# EAGLE library part ESP32-C6-MINI-1 (library ESP32-C6-MINI-1)
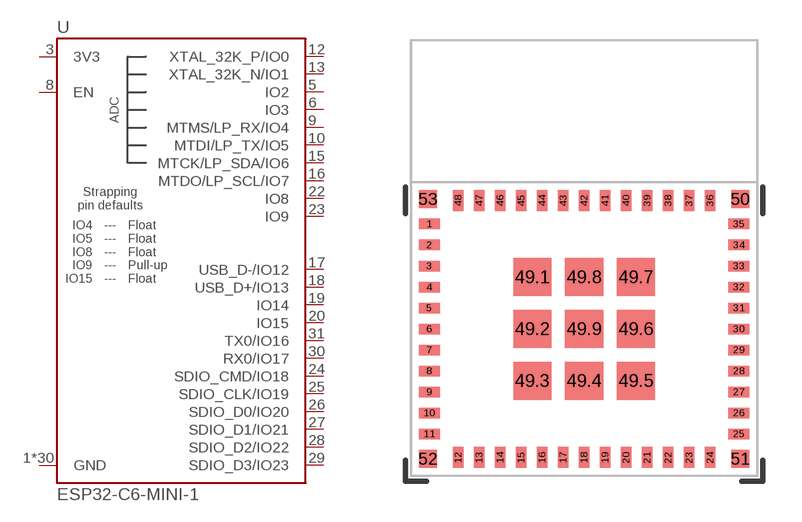
[diagram p0: symbol with the pads of ESP32-C6-MINI-1; footprint ESP32-C6-MINI-1]

Designator prefix U

## ESP32-C6-MINI-1 (PROD_ID: IC-19033)  [ESP32-C6-MINI-1]
1  GND
2  GND
3  3V3
5  IO2
6  IO3
8  EN
9  MTMS/LP_RX/IO4
10  MTDI/LP_TX/IO5
11  GND
12  XTAL_32K_P/IO0
13  XTAL_32K_N/IO1
14  GND
15  MTCK/LP_SDA/IO6
16  MTDO/LP_SCL/IO7
17  USB_D-/IO12
18  USB_D+/IO13
19  IO14
20  IO15
22  IO8
23  IO9
24  SDIO_CMD/IO18
25  SDIO_CLK/IO19
26  SDIO_D0/IO20
27  SDIO_D1/IO21
28  SDIO_D2/IO22
29  SDIO_D3/IO23
30  RX0/IO17
31  TX0/IO16
36  GND
37  GND
38  GND
39  GND
40  GND
41  GND
42  GND
43  GND
44  GND
45  GND
46  GND
47  GND
48  GND
49.1  GND
49.2  GND
49.3  GND
49.4  GND
49.5  GND
49.6  GND
49.7  GND
49.8  GND
49.9  GND
50  GND
51  GND
52  GND
53  GND

## Footprint ESP32-C6-MINI-1 (pad centres in mm)
smd 0.8 x 0.4: 1 -5.9,4; 2 -5.9,3.2; 3 -5.9,2.4; 4 -5.9,1.6; 5 -5.9,0.8; 6 -5.9,0; 7 -5.9,-0.8; 8 -5.9,-1.6; 9 -5.9,-2.4; 10 -5.9,-3.2; 11 -5.9,-4; 25 5.9,-4; 26 5.9,-3.2; 27 5.9,-2.4; 28 5.9,-1.6; 29 5.9,-0.8; 30 5.9,0; 31 5.9,0.8; 32 5.9,1.6; 33 5.9,2.4; 34 5.9,3.2; 35 5.9,4
smd 0.4 x 0.8: 12 -4.8,-4.9; 13 -4,-4.9; 14 -3.2,-4.9; 15 -2.4,-4.9; 16 -1.6,-4.9; 17 -0.8,-4.9; 18 0,-4.9; 19 0.8,-4.9; 20 1.6,-4.9; 21 2.4,-4.9; 22 3.2,-4.9; 23 4,-4.9; 24 4.8,-4.9; 36 4.8,4.9; 37 4,4.9; 38 3.2,4.9; 39 2.4,4.9; 40 1.6,4.9; 41 0.8,4.9; 42 0,4.9; 43 -0.8,4.9; 44 -1.6,4.9; 45 -2.4,4.9; 46 -3.2,4.9; 47 -4,4.9; 48 -4.8,4.9
smd 1.45 x 1.45: 49.1 -1.975,1.975; 49.2 -1.975,0; 49.3 -1.975,-1.975; 49.4 0,-1.975; 49.5 1.975,-1.975; 49.6 1.975,0; 49.7 1.975,1.975; 49.8 0,1.975; 49.9 0,0
smd 0.7 x 0.7: 50 5.95,4.95; 51 5.95,-4.95; 52 -5.95,-4.95; 53 -5.95,4.95